# Altium footprint library FQFP (0.3mm Pitch, Square) - Corner Index.PcbLib: 26 footprints (part 3 of 3)
Each footprint in its own frame and in the unit in brackets; x right, y up, seen from the top. Pads: shape width x height; smd on the part's side, far side on the other; paste and mask are expansions set on the pad; w line width, h text height; cw(c..) or ccw(c..) is an arc to the next point about the centre after c.
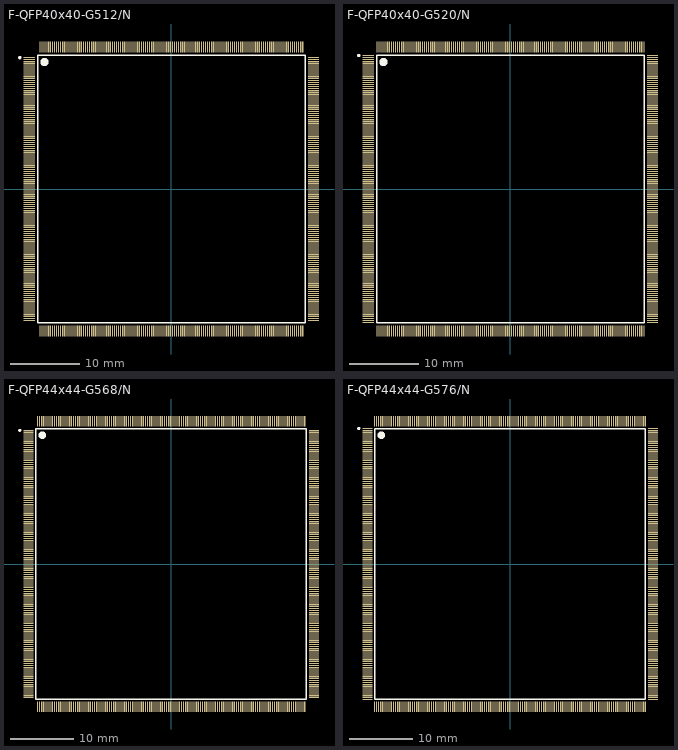
[diagram p2: the footprints below, top view; thin cyan lines are the x and y axes]

## F-QFP40x40-G512/N [mm] "QFP; 512 Leads; Body 40 x 40 mm; Pitch 0.3 mm"
height 4.2
pads (512):
  rect 1.6x0.17 smd: 1(-20.6,19.05) 2(-20.6,18.75) 3(-20.6,18.45) 4(-20.6,18.15) 5(-20.6,17.85) 6(-20.6,17.55) 7(-20.6,17.25) 8(-20.6,16.95) 9(-20.6,16.65) 10(-20.6,16.35) 11(-20.6,16.05) 12(-20.6,15.75) 13(-20.6,15.45) 14(-20.6,15.15) 15(-20.6,14.85) 16(-20.6,14.55) 17(-20.6,14.25) 18(-20.6,13.95) 19(-20.6,13.65) 20(-20.6,13.35) 21(-20.6,13.05) 22(-20.6,12.75) 23(-20.6,12.45) 24(-20.6,12.15) 25(-20.6,11.85) 26(-20.6,11.55) 27(-20.6,11.25) 28(-20.6,10.95) 29(-20.6,10.65) 30(-20.6,10.35) 31(-20.6,10.05) 32(-20.6,9.75) 33(-20.6,9.45) 34(-20.6,9.15) 35(-20.6,8.85) 36(-20.6,8.55) 37(-20.6,8.25) 38(-20.6,7.95) 39(-20.6,7.65) 40(-20.6,7.35) 41(-20.6,7.05) 42(-20.6,6.75) 43(-20.6,6.45) 44(-20.6,6.15) 45(-20.6,5.85) 46(-20.6,5.55) 47(-20.6,5.25) 48(-20.6,4.95) 49(-20.6,4.65) 50(-20.6,4.35) 51(-20.6,4.05) 52(-20.6,3.75) 53(-20.6,3.45) 54(-20.6,3.15) 55(-20.6,2.85) 56(-20.6,2.55) 57(-20.6,2.25) 58(-20.6,1.95) 59(-20.6,1.65) 60(-20.6,1.35) 61(-20.6,1.05) 62(-20.6,0.75) 63(-20.6,0.45) 64(-20.6,0.15) 65(-20.6,-0.15) 66(-20.6,-0.45) 67(-20.6,-0.75) 68(-20.6,-1.05) 69(-20.6,-1.35) 70(-20.6,-1.65) 71(-20.6,-1.95) 72(-20.6,-2.25) 73(-20.6,-2.55) 74(-20.6,-2.85) 75(-20.6,-3.15) 76(-20.6,-3.45) 77(-20.6,-3.75) 78(-20.6,-4.05) 79(-20.6,-4.35) 80(-20.6,-4.65) 81(-20.6,-4.95) 82(-20.6,-5.25) 83(-20.6,-5.55) 84(-20.6,-5.85) 85(-20.6,-6.15) 86(-20.6,-6.45) 87(-20.6,-6.75) 88(-20.6,-7.05) 89(-20.6,-7.35) 90(-20.6,-7.65) 91(-20.6,-7.95) 92(-20.6,-8.25) 93(-20.6,-8.55) 94(-20.6,-8.85) 95(-20.6,-9.15) 96(-20.6,-9.45) 97(-20.6,-9.75) 98(-20.6,-10.05) 99(-20.6,-10.35) 100(-20.6,-10.65) 101(-20.6,-10.95) 102(-20.6,-11.25) 103(-20.6,-11.55) 104(-20.6,-11.85) 105(-20.6,-12.15) 106(-20.6,-12.45) 107(-20.6,-12.75) 108(-20.6,-13.05) 109(-20.6,-13.35) 110(-20.6,-13.65) 111(-20.6,-13.95) 112(-20.6,-14.25) 113(-20.6,-14.55) 114(-20.6,-14.85) 115(-20.6,-15.15) 116(-20.6,-15.45) 117(-20.6,-15.75) 118(-20.6,-16.05) 119(-20.6,-16.35) 120(-20.6,-16.65) 121(-20.6,-16.95) 122(-20.6,-17.25) 123(-20.6,-17.55) 124(-20.6,-17.85) 125(-20.6,-18.15) 126(-20.6,-18.45) 127(-20.6,-18.75) 128(-20.6,-19.05) 257(20.6,-19.05) 258(20.6,-18.75) 259(20.6,-18.45) 260(20.6,-18.15) 261(20.6,-17.85) 262(20.6,-17.55) 263(20.6,-17.25) 264(20.6,-16.95) 265(20.6,-16.65) 266(20.6,-16.35) 267(20.6,-16.05) 268(20.6,-15.75) 269(20.6,-15.45) 270(20.6,-15.15) 271(20.6,-14.85) 272(20.6,-14.55) 273(20.6,-14.25) 274(20.6,-13.95) 275(20.6,-13.65) 276(20.6,-13.35) 277(20.6,-13.05) 278(20.6,-12.75) 279(20.6,-12.45) 280(20.6,-12.15) 281(20.6,-11.85) 282(20.6,-11.55) 283(20.6,-11.25) 284(20.6,-10.95) 285(20.6,-10.65) 286(20.6,-10.35) 287(20.6,-10.05) 288(20.6,-9.75) 289(20.6,-9.45) 290(20.6,-9.15) 291(20.6,-8.85) 292(20.6,-8.55) 293(20.6,-8.25) 294(20.6,-7.95) 295(20.6,-7.65) 296(20.6,-7.35) 297(20.6,-7.05) 298(20.6,-6.75) 299(20.6,-6.45) 300(20.6,-6.15) 301(20.6,-5.85) 302(20.6,-5.55) 303(20.6,-5.25) 304(20.6,-4.95) 305(20.6,-4.65) 306(20.6,-4.35) 307(20.6,-4.05) 308(20.6,-3.75) 309(20.6,-3.45) 310(20.6,-3.15) 311(20.6,-2.85) 312(20.6,-2.55) 313(20.6,-2.25) 314(20.6,-1.95) 315(20.6,-1.65) 316(20.6,-1.35) 317(20.6,-1.05) 318(20.6,-0.75) 319(20.6,-0.45) 320(20.6,-0.15) 321(20.6,0.15) 322(20.6,0.45) 323(20.6,0.75) 324(20.6,1.05) 325(20.6,1.35) 326(20.6,1.65) 327(20.6,1.95) 328(20.6,2.25) 329(20.6,2.55) 330(20.6,2.85) 331(20.6,3.15) 332(20.6,3.45) 333(20.6,3.75) 334(20.6,4.05) 335(20.6,4.35) 336(20.6,4.65) 337(20.6,4.95) 338(20.6,5.25) 339(20.6,5.55) 340(20.6,5.85) 341(20.6,6.15) 342(20.6,6.45) 343(20.6,6.75) 344(20.6,7.05) 345(20.6,7.35) 346(20.6,7.65) 347(20.6,7.95) 348(20.6,8.25) 349(20.6,8.55) 350(20.6,8.85) 351(20.6,9.15) 352(20.6,9.45) 353(20.6,9.75) 354(20.6,10.05) 355(20.6,10.35) 356(20.6,10.65) 357(20.6,10.95) 358(20.6,11.25) 359(20.6,11.55) 360(20.6,11.85) 361(20.6,12.15) 362(20.6,12.45) 363(20.6,12.75) 364(20.6,13.05) 365(20.6,13.35) 366(20.6,13.65) 367(20.6,13.95) 368(20.6,14.25) 369(20.6,14.55) 370(20.6,14.85) 371(20.6,15.15) 372(20.6,15.45) 373(20.6,15.75) 374(20.6,16.05) 375(20.6,16.35) 376(20.6,16.65) 377(20.6,16.95) 378(20.6,17.25) 379(20.6,17.55) 380(20.6,17.85) 381(20.6,18.15) 382(20.6,18.45) 383(20.6,18.75) 384(20.6,19.05)
  rect 0.17x1.6 smd: 129(-19.05,-20.6) 130(-18.75,-20.6) 131(-18.45,-20.6) 132(-18.15,-20.6) 133(-17.85,-20.6) 134(-17.55,-20.6) 135(-17.25,-20.6) 136(-16.95,-20.6) 137(-16.65,-20.6) 138(-16.35,-20.6) 139(-16.05,-20.6) 140(-15.75,-20.6) 141(-15.45,-20.6) 142(-15.15,-20.6) 143(-14.85,-20.6) 144(-14.55,-20.6) 145(-14.25,-20.6) 146(-13.95,-20.6) 147(-13.65,-20.6) 148(-13.35,-20.6) 149(-13.05,-20.6) 150(-12.75,-20.6) 151(-12.45,-20.6) 152(-12.15,-20.6) 153(-11.85,-20.6) 154(-11.55,-20.6) 155(-11.25,-20.6) 156(-10.95,-20.6) 157(-10.65,-20.6) 158(-10.35,-20.6) 159(-10.05,-20.6) 160(-9.75,-20.6) 161(-9.45,-20.6) 162(-9.15,-20.6) 163(-8.85,-20.6) 164(-8.55,-20.6) 165(-8.25,-20.6) 166(-7.95,-20.6) 167(-7.65,-20.6) 168(-7.35,-20.6) 169(-7.05,-20.6) 170(-6.75,-20.6) 171(-6.45,-20.6) 172(-6.15,-20.6) 173(-5.85,-20.6) 174(-5.55,-20.6) 175(-5.25,-20.6) 176(-4.95,-20.6) 177(-4.65,-20.6) 178(-4.35,-20.6) 179(-4.05,-20.6) 180(-3.75,-20.6) 181(-3.45,-20.6) 182(-3.15,-20.6) 183(-2.85,-20.6) 184(-2.55,-20.6) 185(-2.25,-20.6) 186(-1.95,-20.6) 187(-1.65,-20.6) 188(-1.35,-20.6) 189(-1.05,-20.6) 190(-0.75,-20.6) 191(-0.45,-20.6) 192(-0.15,-20.6) 193(0.15,-20.6) 194(0.45,-20.6) 195(0.75,-20.6) 196(1.05,-20.6) 197(1.35,-20.6) 198(1.65,-20.6) 199(1.95,-20.6) 200(2.25,-20.6) 201(2.55,-20.6) 202(2.85,-20.6) 203(3.15,-20.6) 204(3.45,-20.6) 205(3.75,-20.6) 206(4.05,-20.6) 207(4.35,-20.6) 208(4.65,-20.6) 209(4.95,-20.6) 210(5.25,-20.6) 211(5.55,-20.6) 212(5.85,-20.6) 213(6.15,-20.6) 214(6.45,-20.6) 215(6.75,-20.6) 216(7.05,-20.6) 217(7.35,-20.6) 218(7.65,-20.6) 219(7.95,-20.6) 220(8.25,-20.6) 221(8.55,-20.6) 222(8.85,-20.6) 223(9.15,-20.6) 224(9.45,-20.6) 225(9.75,-20.6) 226(10.05,-20.6) 227(10.35,-20.6) 228(10.65,-20.6) 229(10.95,-20.6) 230(11.25,-20.6) 231(11.55,-20.6) 232(11.85,-20.6) 233(12.15,-20.6) 234(12.45,-20.6) 235(12.75,-20.6) 236(13.05,-20.6) 237(13.35,-20.6) 238(13.65,-20.6) 239(13.95,-20.6) 240(14.25,-20.6) 241(14.55,-20.6) 242(14.85,-20.6) 243(15.15,-20.6) 244(15.45,-20.6) 245(15.75,-20.6) 246(16.05,-20.6) 247(16.35,-20.6) 248(16.65,-20.6) 249(16.95,-20.6) 250(17.25,-20.6) 251(17.55,-20.6) 252(17.85,-20.6) 253(18.15,-20.6) 254(18.45,-20.6) 255(18.75,-20.6) 256(19.05,-20.6) 385(19.05,20.6) 386(18.75,20.6) 387(18.45,20.6) 388(18.15,20.6) 389(17.85,20.6) 390(17.55,20.6) 391(17.25,20.6) 392(16.95,20.6) 393(16.65,20.6) 394(16.35,20.6) 395(16.05,20.6) 396(15.75,20.6) 397(15.45,20.6) 398(15.15,20.6) 399(14.85,20.6) 400(14.55,20.6) 401(14.25,20.6) 402(13.95,20.6) 403(13.65,20.6) 404(13.35,20.6) 405(13.05,20.6) 406(12.75,20.6) 407(12.45,20.6) 408(12.15,20.6) 409(11.85,20.6) 410(11.55,20.6) 411(11.25,20.6) 412(10.95,20.6) 413(10.65,20.6) 414(10.35,20.6) 415(10.05,20.6) 416(9.75,20.6) 417(9.45,20.6) 418(9.15,20.6) 419(8.85,20.6) 420(8.55,20.6) 421(8.25,20.6) 422(7.95,20.6) 423(7.65,20.6) 424(7.35,20.6) 425(7.05,20.6) 426(6.75,20.6) 427(6.45,20.6) 428(6.15,20.6) 429(5.85,20.6) 430(5.55,20.6) 431(5.25,20.6) 432(4.95,20.6) 433(4.65,20.6) 434(4.35,20.6) 435(4.05,20.6) 436(3.75,20.6) 437(3.45,20.6) 438(3.15,20.6) 439(2.85,20.6) 440(2.55,20.6) 441(2.25,20.6) 442(1.95,20.6) 443(1.65,20.6) 444(1.35,20.6) 445(1.05,20.6) 446(0.75,20.6) 447(0.45,20.6) 448(0.15,20.6) 449(-0.15,20.6) 450(-0.45,20.6) 451(-0.75,20.6) 452(-1.05,20.6) 453(-1.35,20.6) 454(-1.65,20.6) 455(-1.95,20.6) 456(-2.25,20.6) 457(-2.55,20.6) 458(-2.85,20.6) 459(-3.15,20.6) 460(-3.45,20.6) 461(-3.75,20.6) 462(-4.05,20.6) 463(-4.35,20.6) 464(-4.65,20.6) 465(-4.95,20.6) 466(-5.25,20.6) 467(-5.55,20.6) 468(-5.85,20.6) 469(-6.15,20.6) 470(-6.45,20.6) 471(-6.75,20.6) 472(-7.05,20.6) 473(-7.35,20.6) 474(-7.65,20.6) 475(-7.95,20.6) 476(-8.25,20.6) 477(-8.55,20.6) 478(-8.85,20.6) 479(-9.15,20.6) 480(-9.45,20.6) 481(-9.75,20.6) 482(-10.05,20.6) 483(-10.35,20.6) 484(-10.65,20.6) 485(-10.95,20.6) 486(-11.25,20.6) 487(-11.55,20.6) 488(-11.85,20.6) 489(-12.15,20.6) 490(-12.45,20.6) 491(-12.75,20.6) 492(-13.05,20.6) 493(-13.35,20.6) 494(-13.65,20.6) 495(-13.95,20.6) 496(-14.25,20.6) 497(-14.55,20.6) 498(-14.85,20.6) 499(-15.15,20.6) 500(-15.45,20.6) 501(-15.75,20.6) 502(-16.05,20.6) 503(-16.35,20.6) 504(-16.65,20.6) 505(-16.95,20.6) 506(-17.25,20.6) 507(-17.55,20.6) 508(-17.85,20.6) 509(-18.15,20.6) 510(-18.45,20.6) 511(-18.75,20.6) 512(-19.05,20.6)
Top Overlay:
  circle w0.25: c-21.96,19.05 r0.125
  circle w0.6: c-18.4,18.4 r0.3
  lines w0.2: -19.4,-19.4 19.4,-19.4 19.4,19.4 -19.4,19.4 -19.4,-19.4

## F-QFP40x40-G520/N [mm] "QFP; 520 Leads; Body 40 x 40 mm; Pitch 0.3 mm"
height 4.2
pads (520):
  rect 1.6x0.17 smd: 1(-20.6,19.35) 2(-20.6,19.05) 3(-20.6,18.75) 4(-20.6,18.45) 5(-20.6,18.15) 6(-20.6,17.85) 7(-20.6,17.55) 8(-20.6,17.25) 9(-20.6,16.95) 10(-20.6,16.65) 11(-20.6,16.35) 12(-20.6,16.05) 13(-20.6,15.75) 14(-20.6,15.45) 15(-20.6,15.15) 16(-20.6,14.85) 17(-20.6,14.55) 18(-20.6,14.25) 19(-20.6,13.95) 20(-20.6,13.65) 21(-20.6,13.35) 22(-20.6,13.05) 23(-20.6,12.75) 24(-20.6,12.45) 25(-20.6,12.15) 26(-20.6,11.85) 27(-20.6,11.55) 28(-20.6,11.25) 29(-20.6,10.95) 30(-20.6,10.65) 31(-20.6,10.35) 32(-20.6,10.05) 33(-20.6,9.75) 34(-20.6,9.45) 35(-20.6,9.15) 36(-20.6,8.85) 37(-20.6,8.55) 38(-20.6,8.25) 39(-20.6,7.95) 40(-20.6,7.65) 41(-20.6,7.35) 42(-20.6,7.05) 43(-20.6,6.75) 44(-20.6,6.45) 45(-20.6,6.15) 46(-20.6,5.85) 47(-20.6,5.55) 48(-20.6,5.25) 49(-20.6,4.95) 50(-20.6,4.65) 51(-20.6,4.35) 52(-20.6,4.05) 53(-20.6,3.75) 54(-20.6,3.45) 55(-20.6,3.15) 56(-20.6,2.85) 57(-20.6,2.55) 58(-20.6,2.25) 59(-20.6,1.95) 60(-20.6,1.65) 61(-20.6,1.35) 62(-20.6,1.05) 63(-20.6,0.75) 64(-20.6,0.45) 65(-20.6,0.15) 66(-20.6,-0.15) 67(-20.6,-0.45) 68(-20.6,-0.75) 69(-20.6,-1.05) 70(-20.6,-1.35) 71(-20.6,-1.65) 72(-20.6,-1.95) 73(-20.6,-2.25) 74(-20.6,-2.55) 75(-20.6,-2.85) 76(-20.6,-3.15) 77(-20.6,-3.45) 78(-20.6,-3.75) 79(-20.6,-4.05) 80(-20.6,-4.35) 81(-20.6,-4.65) 82(-20.6,-4.95) 83(-20.6,-5.25) 84(-20.6,-5.55) 85(-20.6,-5.85) 86(-20.6,-6.15) 87(-20.6,-6.45) 88(-20.6,-6.75) 89(-20.6,-7.05) 90(-20.6,-7.35) 91(-20.6,-7.65) 92(-20.6,-7.95) 93(-20.6,-8.25) 94(-20.6,-8.55) 95(-20.6,-8.85) 96(-20.6,-9.15) 97(-20.6,-9.45) 98(-20.6,-9.75) 99(-20.6,-10.05) 100(-20.6,-10.35) 101(-20.6,-10.65) 102(-20.6,-10.95) 103(-20.6,-11.25) 104(-20.6,-11.55) 105(-20.6,-11.85) 106(-20.6,-12.15) 107(-20.6,-12.45) 108(-20.6,-12.75) 109(-20.6,-13.05) 110(-20.6,-13.35) 111(-20.6,-13.65) 112(-20.6,-13.95) 113(-20.6,-14.25) 114(-20.6,-14.55) 115(-20.6,-14.85) 116(-20.6,-15.15) 117(-20.6,-15.45) 118(-20.6,-15.75) 119(-20.6,-16.05) 120(-20.6,-16.35) 121(-20.6,-16.65) 122(-20.6,-16.95) 123(-20.6,-17.25) 124(-20.6,-17.55) 125(-20.6,-17.85) 126(-20.6,-18.15) 127(-20.6,-18.45) 128(-20.6,-18.75) 129(-20.6,-19.05) 130(-20.6,-19.35) 261(20.6,-19.35) 262(20.6,-19.05) 263(20.6,-18.75) 264(20.6,-18.45) 265(20.6,-18.15) 266(20.6,-17.85) 267(20.6,-17.55) 268(20.6,-17.25) 269(20.6,-16.95) 270(20.6,-16.65) 271(20.6,-16.35) 272(20.6,-16.05) 273(20.6,-15.75) 274(20.6,-15.45) 275(20.6,-15.15) 276(20.6,-14.85) 277(20.6,-14.55) 278(20.6,-14.25) 279(20.6,-13.95) 280(20.6,-13.65) 281(20.6,-13.35) 282(20.6,-13.05) 283(20.6,-12.75) 284(20.6,-12.45) 285(20.6,-12.15) 286(20.6,-11.85) 287(20.6,-11.55) 288(20.6,-11.25) 289(20.6,-10.95) 290(20.6,-10.65) 291(20.6,-10.35) 292(20.6,-10.05) 293(20.6,-9.75) 294(20.6,-9.45) 295(20.6,-9.15) 296(20.6,-8.85) 297(20.6,-8.55) 298(20.6,-8.25) 299(20.6,-7.95) 300(20.6,-7.65) 301(20.6,-7.35) 302(20.6,-7.05) 303(20.6,-6.75) 304(20.6,-6.45) 305(20.6,-6.15) 306(20.6,-5.85) 307(20.6,-5.55) 308(20.6,-5.25) 309(20.6,-4.95) 310(20.6,-4.65) 311(20.6,-4.35) 312(20.6,-4.05) 313(20.6,-3.75) 314(20.6,-3.45) 315(20.6,-3.15) 316(20.6,-2.85) 317(20.6,-2.55) 318(20.6,-2.25) 319(20.6,-1.95) 320(20.6,-1.65) 321(20.6,-1.35) 322(20.6,-1.05) 323(20.6,-0.75) 324(20.6,-0.45) 325(20.6,-0.15) 326(20.6,0.15) 327(20.6,0.45) 328(20.6,0.75) 329(20.6,1.05) 330(20.6,1.35) 331(20.6,1.65) 332(20.6,1.95) 333(20.6,2.25) 334(20.6,2.55) 335(20.6,2.85) 336(20.6,3.15) 337(20.6,3.45) 338(20.6,3.75) 339(20.6,4.05) 340(20.6,4.35) 341(20.6,4.65) 342(20.6,4.95) 343(20.6,5.25) 344(20.6,5.55) 345(20.6,5.85) 346(20.6,6.15) 347(20.6,6.45) 348(20.6,6.75) 349(20.6,7.05) 350(20.6,7.35) 351(20.6,7.65) 352(20.6,7.95) 353(20.6,8.25) 354(20.6,8.55) 355(20.6,8.85) 356(20.6,9.15) 357(20.6,9.45) 358(20.6,9.75) 359(20.6,10.05) 360(20.6,10.35) 361(20.6,10.65) 362(20.6,10.95) 363(20.6,11.25) 364(20.6,11.55) 365(20.6,11.85) 366(20.6,12.15) 367(20.6,12.45) 368(20.6,12.75) 369(20.6,13.05) 370(20.6,13.35) 371(20.6,13.65) 372(20.6,13.95) 373(20.6,14.25) 374(20.6,14.55) 375(20.6,14.85) 376(20.6,15.15) 377(20.6,15.45) 378(20.6,15.75) 379(20.6,16.05) 380(20.6,16.35) 381(20.6,16.65) 382(20.6,16.95) 383(20.6,17.25) 384(20.6,17.55) 385(20.6,17.85) 386(20.6,18.15) 387(20.6,18.45) 388(20.6,18.75) 389(20.6,19.05) 390(20.6,19.35)
  rect 0.17x1.6 smd: 131(-19.35,-20.6) 132(-19.05,-20.6) 133(-18.75,-20.6) 134(-18.45,-20.6) 135(-18.15,-20.6) 136(-17.85,-20.6) 137(-17.55,-20.6) 138(-17.25,-20.6) 139(-16.95,-20.6) 140(-16.65,-20.6) 141(-16.35,-20.6) 142(-16.05,-20.6) 143(-15.75,-20.6) 144(-15.45,-20.6) 145(-15.15,-20.6) 146(-14.85,-20.6) 147(-14.55,-20.6) 148(-14.25,-20.6) 149(-13.95,-20.6) 150(-13.65,-20.6) 151(-13.35,-20.6) 152(-13.05,-20.6) 153(-12.75,-20.6) 154(-12.45,-20.6) 155(-12.15,-20.6) 156(-11.85,-20.6) 157(-11.55,-20.6) 158(-11.25,-20.6) 159(-10.95,-20.6) 160(-10.65,-20.6) 161(-10.35,-20.6) 162(-10.05,-20.6) 163(-9.75,-20.6) 164(-9.45,-20.6) 165(-9.15,-20.6) 166(-8.85,-20.6) 167(-8.55,-20.6) 168(-8.25,-20.6) 169(-7.95,-20.6) 170(-7.65,-20.6) 171(-7.35,-20.6) 172(-7.05,-20.6) 173(-6.75,-20.6) 174(-6.45,-20.6) 175(-6.15,-20.6) 176(-5.85,-20.6) 177(-5.55,-20.6) 178(-5.25,-20.6) 179(-4.95,-20.6) 180(-4.65,-20.6) 181(-4.35,-20.6) 182(-4.05,-20.6) 183(-3.75,-20.6) 184(-3.45,-20.6) 185(-3.15,-20.6) 186(-2.85,-20.6) 187(-2.55,-20.6) 188(-2.25,-20.6) 189(-1.95,-20.6) 190(-1.65,-20.6) 191(-1.35,-20.6) 192(-1.05,-20.6) 193(-0.75,-20.6) 194(-0.45,-20.6) 195(-0.15,-20.6) 196(0.15,-20.6) 197(0.45,-20.6) 198(0.75,-20.6) 199(1.05,-20.6) 200(1.35,-20.6) 201(1.65,-20.6) 202(1.95,-20.6) 203(2.25,-20.6) 204(2.55,-20.6) 205(2.85,-20.6) 206(3.15,-20.6) 207(3.45,-20.6) 208(3.75,-20.6) 209(4.05,-20.6) 210(4.35,-20.6) 211(4.65,-20.6) 212(4.95,-20.6) 213(5.25,-20.6) 214(5.55,-20.6) 215(5.85,-20.6) 216(6.15,-20.6) 217(6.45,-20.6) 218(6.75,-20.6) 219(7.05,-20.6) 220(7.35,-20.6) 221(7.65,-20.6) 222(7.95,-20.6) 223(8.25,-20.6) 224(8.55,-20.6) 225(8.85,-20.6) 226(9.15,-20.6) 227(9.45,-20.6) 228(9.75,-20.6) 229(10.05,-20.6) 230(10.35,-20.6) 231(10.65,-20.6) 232(10.95,-20.6) 233(11.25,-20.6) 234(11.55,-20.6) 235(11.85,-20.6) 236(12.15,-20.6) 237(12.45,-20.6) 238(12.75,-20.6) 239(13.05,-20.6) 240(13.35,-20.6) 241(13.65,-20.6) 242(13.95,-20.6) 243(14.25,-20.6) 244(14.55,-20.6) 245(14.85,-20.6) 246(15.15,-20.6) 247(15.45,-20.6) 248(15.75,-20.6) 249(16.05,-20.6) 250(16.35,-20.6) 251(16.65,-20.6) 252(16.95,-20.6) 253(17.25,-20.6) 254(17.55,-20.6) 255(17.85,-20.6) 256(18.15,-20.6) 257(18.45,-20.6) 258(18.75,-20.6) 259(19.05,-20.6) 260(19.35,-20.6) 391(19.35,20.6) 392(19.05,20.6) 393(18.75,20.6) 394(18.45,20.6) 395(18.15,20.6) 396(17.85,20.6) 397(17.55,20.6) 398(17.25,20.6) 399(16.95,20.6) 400(16.65,20.6) 401(16.35,20.6) 402(16.05,20.6) 403(15.75,20.6) 404(15.45,20.6) 405(15.15,20.6) 406(14.85,20.6) 407(14.55,20.6) 408(14.25,20.6) 409(13.95,20.6) 410(13.65,20.6) 411(13.35,20.6) 412(13.05,20.6) 413(12.75,20.6) 414(12.45,20.6) 415(12.15,20.6) 416(11.85,20.6) 417(11.55,20.6) 418(11.25,20.6) 419(10.95,20.6) 420(10.65,20.6) 421(10.35,20.6) 422(10.05,20.6) 423(9.75,20.6) 424(9.45,20.6) 425(9.15,20.6) 426(8.85,20.6) 427(8.55,20.6) 428(8.25,20.6) 429(7.95,20.6) 430(7.65,20.6) 431(7.35,20.6) 432(7.05,20.6) 433(6.75,20.6) 434(6.45,20.6) 435(6.15,20.6) 436(5.85,20.6) 437(5.55,20.6) 438(5.25,20.6) 439(4.95,20.6) 440(4.65,20.6) 441(4.35,20.6) 442(4.05,20.6) 443(3.75,20.6) 444(3.45,20.6) 445(3.15,20.6) 446(2.85,20.6) 447(2.55,20.6) 448(2.25,20.6) 449(1.95,20.6) 450(1.65,20.6) 451(1.35,20.6) 452(1.05,20.6) 453(0.75,20.6) 454(0.45,20.6) 455(0.15,20.6) 456(-0.15,20.6) 457(-0.45,20.6) 458(-0.75,20.6) 459(-1.05,20.6) 460(-1.35,20.6) 461(-1.65,20.6) 462(-1.95,20.6) 463(-2.25,20.6) 464(-2.55,20.6) 465(-2.85,20.6) 466(-3.15,20.6) 467(-3.45,20.6) 468(-3.75,20.6) 469(-4.05,20.6) 470(-4.35,20.6) 471(-4.65,20.6) 472(-4.95,20.6) 473(-5.25,20.6) 474(-5.55,20.6) 475(-5.85,20.6) 476(-6.15,20.6) 477(-6.45,20.6) 478(-6.75,20.6) 479(-7.05,20.6) 480(-7.35,20.6) 481(-7.65,20.6) 482(-7.95,20.6) 483(-8.25,20.6) 484(-8.55,20.6) 485(-8.85,20.6) 486(-9.15,20.6) 487(-9.45,20.6) 488(-9.75,20.6) 489(-10.05,20.6) 490(-10.35,20.6) 491(-10.65,20.6) 492(-10.95,20.6) 493(-11.25,20.6) 494(-11.55,20.6) 495(-11.85,20.6) 496(-12.15,20.6) 497(-12.45,20.6) 498(-12.75,20.6) 499(-13.05,20.6) 500(-13.35,20.6) 501(-13.65,20.6) 502(-13.95,20.6) 503(-14.25,20.6) 504(-14.55,20.6) 505(-14.85,20.6) 506(-15.15,20.6) 507(-15.45,20.6) 508(-15.75,20.6) 509(-16.05,20.6) 510(-16.35,20.6) 511(-16.65,20.6) 512(-16.95,20.6) 513(-17.25,20.6) 514(-17.55,20.6) 515(-17.85,20.6) 516(-18.15,20.6) 517(-18.45,20.6) 518(-18.75,20.6) 519(-19.05,20.6) 520(-19.35,20.6)
Top Overlay:
  circle w0.25: c-21.96,19.35 r0.125
  circle w0.6: c-18.4,18.4 r0.3
  lines w0.2: -19.4,-19.4 19.4,-19.4 19.4,19.4 -19.4,19.4 -19.4,-19.4

## F-QFP44x44-G568/N [mm] "QFP; 568 Leads; Body 44 x 44 mm; Pitch 0.3 mm"
height 4.2
pads (568):
  rect 1.6x0.17 smd: 1(-22.6,21.15) 2(-22.6,20.85) 3(-22.6,20.55) 4(-22.6,20.25) 5(-22.6,19.95) 6(-22.6,19.65) 7(-22.6,19.35) 8(-22.6,19.05) 9(-22.6,18.75) 10(-22.6,18.45) 11(-22.6,18.15) 12(-22.6,17.85) 13(-22.6,17.55) 14(-22.6,17.25) 15(-22.6,16.95) 16(-22.6,16.65) 17(-22.6,16.35) 18(-22.6,16.05) 19(-22.6,15.75) 20(-22.6,15.45) 21(-22.6,15.15) 22(-22.6,14.85) 23(-22.6,14.55) 24(-22.6,14.25) 25(-22.6,13.95) 26(-22.6,13.65) 27(-22.6,13.35) 28(-22.6,13.05) 29(-22.6,12.75) 30(-22.6,12.45) 31(-22.6,12.15) 32(-22.6,11.85) 33(-22.6,11.55) 34(-22.6,11.25) 35(-22.6,10.95) 36(-22.6,10.65) 37(-22.6,10.35) 38(-22.6,10.05) 39(-22.6,9.75) 40(-22.6,9.45) 41(-22.6,9.15) 42(-22.6,8.85) 43(-22.6,8.55) 44(-22.6,8.25) 45(-22.6,7.95) 46(-22.6,7.65) 47(-22.6,7.35) 48(-22.6,7.05) 49(-22.6,6.75) 50(-22.6,6.45) 51(-22.6,6.15) 52(-22.6,5.85) 53(-22.6,5.55) 54(-22.6,5.25) 55(-22.6,4.95) 56(-22.6,4.65) 57(-22.6,4.35) 58(-22.6,4.05) 59(-22.6,3.75) 60(-22.6,3.45) 61(-22.6,3.15) 62(-22.6,2.85) 63(-22.6,2.55) 64(-22.6,2.25) 65(-22.6,1.95) 66(-22.6,1.65) 67(-22.6,1.35) 68(-22.6,1.05) 69(-22.6,0.75) 70(-22.6,0.45) 71(-22.6,0.15) 72(-22.6,-0.15) 73(-22.6,-0.45) 74(-22.6,-0.75) 75(-22.6,-1.05) 76(-22.6,-1.35) 77(-22.6,-1.65) 78(-22.6,-1.95) 79(-22.6,-2.25) 80(-22.6,-2.55) 81(-22.6,-2.85) 82(-22.6,-3.15) 83(-22.6,-3.45) 84(-22.6,-3.75) 85(-22.6,-4.05) 86(-22.6,-4.35) 87(-22.6,-4.65) 88(-22.6,-4.95) 89(-22.6,-5.25) 90(-22.6,-5.55) 91(-22.6,-5.85) 92(-22.6,-6.15) 93(-22.6,-6.45) 94(-22.6,-6.75) 95(-22.6,-7.05) 96(-22.6,-7.35) 97(-22.6,-7.65) 98(-22.6,-7.95) 99(-22.6,-8.25) 100(-22.6,-8.55) 101(-22.6,-8.85) 102(-22.6,-9.15) 103(-22.6,-9.45) 104(-22.6,-9.75) 105(-22.6,-10.05) 106(-22.6,-10.35) 107(-22.6,-10.65) 108(-22.6,-10.95) 109(-22.6,-11.25) 110(-22.6,-11.55) 111(-22.6,-11.85) 112(-22.6,-12.15) 113(-22.6,-12.45) 114(-22.6,-12.75) 115(-22.6,-13.05) 116(-22.6,-13.35) 117(-22.6,-13.65) 118(-22.6,-13.95) 119(-22.6,-14.25) 120(-22.6,-14.55) 121(-22.6,-14.85) 122(-22.6,-15.15) 123(-22.6,-15.45) 124(-22.6,-15.75) 125(-22.6,-16.05) 126(-22.6,-16.35) 127(-22.6,-16.65) 128(-22.6,-16.95) 129(-22.6,-17.25) 130(-22.6,-17.55) 131(-22.6,-17.85) 132(-22.6,-18.15) 133(-22.6,-18.45) 134(-22.6,-18.75) 135(-22.6,-19.05) 136(-22.6,-19.35) 137(-22.6,-19.65) 138(-22.6,-19.95) 139(-22.6,-20.25) 140(-22.6,-20.55) 141(-22.6,-20.85) 142(-22.6,-21.15) 285(22.6,-21.15) 286(22.6,-20.85) 287(22.6,-20.55) 288(22.6,-20.25) 289(22.6,-19.95) 290(22.6,-19.65) 291(22.6,-19.35) 292(22.6,-19.05) 293(22.6,-18.75) 294(22.6,-18.45) 295(22.6,-18.15) 296(22.6,-17.85) 297(22.6,-17.55) 298(22.6,-17.25) 299(22.6,-16.95) 300(22.6,-16.65) 301(22.6,-16.35) 302(22.6,-16.05) 303(22.6,-15.75) 304(22.6,-15.45) 305(22.6,-15.15) 306(22.6,-14.85) 307(22.6,-14.55) 308(22.6,-14.25) 309(22.6,-13.95) 310(22.6,-13.65) 311(22.6,-13.35) 312(22.6,-13.05) 313(22.6,-12.75) 314(22.6,-12.45) 315(22.6,-12.15) 316(22.6,-11.85) 317(22.6,-11.55) 318(22.6,-11.25) 319(22.6,-10.95) 320(22.6,-10.65) 321(22.6,-10.35) 322(22.6,-10.05) 323(22.6,-9.75) 324(22.6,-9.45) 325(22.6,-9.15) 326(22.6,-8.85) 327(22.6,-8.55) 328(22.6,-8.25) 329(22.6,-7.95) 330(22.6,-7.65) 331(22.6,-7.35) 332(22.6,-7.05) 333(22.6,-6.75) 334(22.6,-6.45) 335(22.6,-6.15) 336(22.6,-5.85) 337(22.6,-5.55) 338(22.6,-5.25) 339(22.6,-4.95) 340(22.6,-4.65) 341(22.6,-4.35) 342(22.6,-4.05) 343(22.6,-3.75) 344(22.6,-3.45) 345(22.6,-3.15) 346(22.6,-2.85) 347(22.6,-2.55) 348(22.6,-2.25) 349(22.6,-1.95) 350(22.6,-1.65) 351(22.6,-1.35) 352(22.6,-1.05) 353(22.6,-0.75) 354(22.6,-0.45) 355(22.6,-0.15) 356(22.6,0.15) 357(22.6,0.45) 358(22.6,0.75) 359(22.6,1.05) 360(22.6,1.35) 361(22.6,1.65) 362(22.6,1.95) 363(22.6,2.25) 364(22.6,2.55) 365(22.6,2.85) 366(22.6,3.15) 367(22.6,3.45) 368(22.6,3.75) 369(22.6,4.05) 370(22.6,4.35) 371(22.6,4.65) 372(22.6,4.95) 373(22.6,5.25) 374(22.6,5.55) 375(22.6,5.85) 376(22.6,6.15) 377(22.6,6.45) 378(22.6,6.75) 379(22.6,7.05) 380(22.6,7.35) 381(22.6,7.65) 382(22.6,7.95) 383(22.6,8.25) 384(22.6,8.55) 385(22.6,8.85) 386(22.6,9.15) 387(22.6,9.45) 388(22.6,9.75) 389(22.6,10.05) 390(22.6,10.35) 391(22.6,10.65) 392(22.6,10.95) 393(22.6,11.25) 394(22.6,11.55) 395(22.6,11.85) 396(22.6,12.15) 397(22.6,12.45) 398(22.6,12.75) 399(22.6,13.05) 400(22.6,13.35) 401(22.6,13.65) 402(22.6,13.95) 403(22.6,14.25) 404(22.6,14.55) 405(22.6,14.85) 406(22.6,15.15) 407(22.6,15.45) 408(22.6,15.75) 409(22.6,16.05) 410(22.6,16.35) 411(22.6,16.65) 412(22.6,16.95) 413(22.6,17.25) 414(22.6,17.55) 415(22.6,17.85) 416(22.6,18.15) 417(22.6,18.45) 418(22.6,18.75) 419(22.6,19.05) 420(22.6,19.35) 421(22.6,19.65) 422(22.6,19.95) 423(22.6,20.25) 424(22.6,20.55) 425(22.6,20.85) 426(22.6,21.15)
  rect 0.17x1.6 smd: 143(-21.15,-22.6) 144(-20.85,-22.6) 145(-20.55,-22.6) 146(-20.25,-22.6) 147(-19.95,-22.6) 148(-19.65,-22.6) 149(-19.35,-22.6) 150(-19.05,-22.6) 151(-18.75,-22.6) 152(-18.45,-22.6) 153(-18.15,-22.6) 154(-17.85,-22.6) 155(-17.55,-22.6) 156(-17.25,-22.6) 157(-16.95,-22.6) 158(-16.65,-22.6) 159(-16.35,-22.6) 160(-16.05,-22.6) 161(-15.75,-22.6) 162(-15.45,-22.6) 163(-15.15,-22.6) 164(-14.85,-22.6) 165(-14.55,-22.6) 166(-14.25,-22.6) 167(-13.95,-22.6) 168(-13.65,-22.6) 169(-13.35,-22.6) 170(-13.05,-22.6) 171(-12.75,-22.6) 172(-12.45,-22.6) 173(-12.15,-22.6) 174(-11.85,-22.6) 175(-11.55,-22.6) 176(-11.25,-22.6) 177(-10.95,-22.6) 178(-10.65,-22.6) 179(-10.35,-22.6) 180(-10.05,-22.6) 181(-9.75,-22.6) 182(-9.45,-22.6) 183(-9.15,-22.6) 184(-8.85,-22.6) 185(-8.55,-22.6) 186(-8.25,-22.6) 187(-7.95,-22.6) 188(-7.65,-22.6) 189(-7.35,-22.6) 190(-7.05,-22.6) 191(-6.75,-22.6) 192(-6.45,-22.6) 193(-6.15,-22.6) 194(-5.85,-22.6) 195(-5.55,-22.6) 196(-5.25,-22.6) 197(-4.95,-22.6) 198(-4.65,-22.6) 199(-4.35,-22.6) 200(-4.05,-22.6) 201(-3.75,-22.6) 202(-3.45,-22.6) 203(-3.15,-22.6) 204(-2.85,-22.6) 205(-2.55,-22.6) 206(-2.25,-22.6) 207(-1.95,-22.6) 208(-1.65,-22.6) 209(-1.35,-22.6) 210(-1.05,-22.6) 211(-0.75,-22.6) 212(-0.45,-22.6) 213(-0.15,-22.6) 214(0.15,-22.6) 215(0.45,-22.6) 216(0.75,-22.6) 217(1.05,-22.6) 218(1.35,-22.6) 219(1.65,-22.6) 220(1.95,-22.6) 221(2.25,-22.6) 222(2.55,-22.6) 223(2.85,-22.6) 224(3.15,-22.6) 225(3.45,-22.6) 226(3.75,-22.6) 227(4.05,-22.6) 228(4.35,-22.6) 229(4.65,-22.6) 230(4.95,-22.6) 231(5.25,-22.6) 232(5.55,-22.6) 233(5.85,-22.6) 234(6.15,-22.6) 235(6.45,-22.6) 236(6.75,-22.6) 237(7.05,-22.6) 238(7.35,-22.6) 239(7.65,-22.6) 240(7.95,-22.6) 241(8.25,-22.6) 242(8.55,-22.6) 243(8.85,-22.6) 244(9.15,-22.6) 245(9.45,-22.6) 246(9.75,-22.6) 247(10.05,-22.6) 248(10.35,-22.6) 249(10.65,-22.6) 250(10.95,-22.6) 251(11.25,-22.6) 252(11.55,-22.6) 253(11.85,-22.6) 254(12.15,-22.6) 255(12.45,-22.6) 256(12.75,-22.6) 257(13.05,-22.6) 258(13.35,-22.6) 259(13.65,-22.6) 260(13.95,-22.6) 261(14.25,-22.6) 262(14.55,-22.6) 263(14.85,-22.6) 264(15.15,-22.6) 265(15.45,-22.6) 266(15.75,-22.6) 267(16.05,-22.6) 268(16.35,-22.6) 269(16.65,-22.6) 270(16.95,-22.6) 271(17.25,-22.6) 272(17.55,-22.6) 273(17.85,-22.6) 274(18.15,-22.6) 275(18.45,-22.6) 276(18.75,-22.6) 277(19.05,-22.6) 278(19.35,-22.6) 279(19.65,-22.6) 280(19.95,-22.6) 281(20.25,-22.6) 282(20.55,-22.6) 283(20.85,-22.6) 284(21.15,-22.6) 427(21.15,22.6) 428(20.85,22.6) 429(20.55,22.6) 430(20.25,22.6) 431(19.95,22.6) 432(19.65,22.6) 433(19.35,22.6) 434(19.05,22.6) 435(18.75,22.6) 436(18.45,22.6) 437(18.15,22.6) 438(17.85,22.6) 439(17.55,22.6) 440(17.25,22.6) 441(16.95,22.6) 442(16.65,22.6) 443(16.35,22.6) 444(16.05,22.6) 445(15.75,22.6) 446(15.45,22.6) 447(15.15,22.6) 448(14.85,22.6) 449(14.55,22.6) 450(14.25,22.6) 451(13.95,22.6) 452(13.65,22.6) 453(13.35,22.6) 454(13.05,22.6) 455(12.75,22.6) 456(12.45,22.6) 457(12.15,22.6) 458(11.85,22.6) 459(11.55,22.6) 460(11.25,22.6) 461(10.95,22.6) 462(10.65,22.6) 463(10.35,22.6) 464(10.05,22.6) 465(9.75,22.6) 466(9.45,22.6) 467(9.15,22.6) 468(8.85,22.6) 469(8.55,22.6) 470(8.25,22.6) 471(7.95,22.6) 472(7.65,22.6) 473(7.35,22.6) 474(7.05,22.6) 475(6.75,22.6) 476(6.45,22.6) 477(6.15,22.6) 478(5.85,22.6) 479(5.55,22.6) 480(5.25,22.6) 481(4.95,22.6) 482(4.65,22.6) 483(4.35,22.6) 484(4.05,22.6) 485(3.75,22.6) 486(3.45,22.6) 487(3.15,22.6) 488(2.85,22.6) 489(2.55,22.6) 490(2.25,22.6) 491(1.95,22.6) 492(1.65,22.6) 493(1.35,22.6) 494(1.05,22.6) 495(0.75,22.6) 496(0.45,22.6) 497(0.15,22.6) 498(-0.15,22.6) 499(-0.45,22.6) 500(-0.75,22.6) 501(-1.05,22.6) 502(-1.35,22.6) 503(-1.65,22.6) 504(-1.95,22.6) 505(-2.25,22.6) 506(-2.55,22.6) 507(-2.85,22.6) 508(-3.15,22.6) 509(-3.45,22.6) 510(-3.75,22.6) 511(-4.05,22.6) 512(-4.35,22.6) 513(-4.65,22.6) 514(-4.95,22.6) 515(-5.25,22.6) 516(-5.55,22.6) 517(-5.85,22.6) 518(-6.15,22.6) 519(-6.45,22.6) 520(-6.75,22.6) 521(-7.05,22.6) 522(-7.35,22.6) 523(-7.65,22.6) 524(-7.95,22.6) 525(-8.25,22.6) 526(-8.55,22.6) 527(-8.85,22.6) 528(-9.15,22.6) 529(-9.45,22.6) 530(-9.75,22.6) 531(-10.05,22.6) 532(-10.35,22.6) 533(-10.65,22.6) 534(-10.95,22.6) 535(-11.25,22.6) 536(-11.55,22.6) 537(-11.85,22.6) 538(-12.15,22.6) 539(-12.45,22.6) 540(-12.75,22.6) 541(-13.05,22.6) 542(-13.35,22.6) 543(-13.65,22.6) 544(-13.95,22.6) 545(-14.25,22.6) 546(-14.55,22.6) 547(-14.85,22.6) 548(-15.15,22.6) 549(-15.45,22.6) 550(-15.75,22.6) 551(-16.05,22.6) 552(-16.35,22.6) 553(-16.65,22.6) 554(-16.95,22.6) 555(-17.25,22.6) 556(-17.55,22.6) 557(-17.85,22.6) 558(-18.15,22.6) 559(-18.45,22.6) 560(-18.75,22.6) 561(-19.05,22.6) 562(-19.35,22.6) 563(-19.65,22.6) 564(-19.95,22.6) 565(-20.25,22.6) 566(-20.55,22.6) 567(-20.85,22.6) 568(-21.15,22.6)
Top Overlay:
  circle w0.25: c-23.96,21.15 r0.125
  circle w0.6: c-20.4,20.4 r0.3
  lines w0.2: -21.4,-21.4 21.4,-21.4 21.4,21.4 -21.4,21.4 -21.4,-21.4

## F-QFP44x44-G576/N [mm] "QFP; 576 Leads; Body 44 x 44 mm; Pitch 0.3 mm"
height 4.2
pads (576):
  rect 1.6x0.17 smd: 1(-22.6,21.45) 2(-22.6,21.15) 3(-22.6,20.85) 4(-22.6,20.55) 5(-22.6,20.25) 6(-22.6,19.95) 7(-22.6,19.65) 8(-22.6,19.35) 9(-22.6,19.05) 10(-22.6,18.75) 11(-22.6,18.45) 12(-22.6,18.15) 13(-22.6,17.85) 14(-22.6,17.55) 15(-22.6,17.25) 16(-22.6,16.95) 17(-22.6,16.65) 18(-22.6,16.35) 19(-22.6,16.05) 20(-22.6,15.75) 21(-22.6,15.45) 22(-22.6,15.15) 23(-22.6,14.85) 24(-22.6,14.55) 25(-22.6,14.25) 26(-22.6,13.95) 27(-22.6,13.65) 28(-22.6,13.35) 29(-22.6,13.05) 30(-22.6,12.75) 31(-22.6,12.45) 32(-22.6,12.15) 33(-22.6,11.85) 34(-22.6,11.55) 35(-22.6,11.25) 36(-22.6,10.95) 37(-22.6,10.65) 38(-22.6,10.35) 39(-22.6,10.05) 40(-22.6,9.75) 41(-22.6,9.45) 42(-22.6,9.15) 43(-22.6,8.85) 44(-22.6,8.55) 45(-22.6,8.25) 46(-22.6,7.95) 47(-22.6,7.65) 48(-22.6,7.35) 49(-22.6,7.05) 50(-22.6,6.75) 51(-22.6,6.45) 52(-22.6,6.15) 53(-22.6,5.85) 54(-22.6,5.55) 55(-22.6,5.25) 56(-22.6,4.95) 57(-22.6,4.65) 58(-22.6,4.35) 59(-22.6,4.05) 60(-22.6,3.75) 61(-22.6,3.45) 62(-22.6,3.15) 63(-22.6,2.85) 64(-22.6,2.55) 65(-22.6,2.25) 66(-22.6,1.95) 67(-22.6,1.65) 68(-22.6,1.35) 69(-22.6,1.05) 70(-22.6,0.75) 71(-22.6,0.45) 72(-22.6,0.15) 73(-22.6,-0.15) 74(-22.6,-0.45) 75(-22.6,-0.75) 76(-22.6,-1.05) 77(-22.6,-1.35) 78(-22.6,-1.65) 79(-22.6,-1.95) 80(-22.6,-2.25) 81(-22.6,-2.55) 82(-22.6,-2.85) 83(-22.6,-3.15) 84(-22.6,-3.45) 85(-22.6,-3.75) 86(-22.6,-4.05) 87(-22.6,-4.35) 88(-22.6,-4.65) 89(-22.6,-4.95) 90(-22.6,-5.25) 91(-22.6,-5.55) 92(-22.6,-5.85) 93(-22.6,-6.15) 94(-22.6,-6.45) 95(-22.6,-6.75) 96(-22.6,-7.05) 97(-22.6,-7.35) 98(-22.6,-7.65) 99(-22.6,-7.95) 100(-22.6,-8.25) 101(-22.6,-8.55) 102(-22.6,-8.85) 103(-22.6,-9.15) 104(-22.6,-9.45) 105(-22.6,-9.75) 106(-22.6,-10.05) 107(-22.6,-10.35) 108(-22.6,-10.65) 109(-22.6,-10.95) 110(-22.6,-11.25) 111(-22.6,-11.55) 112(-22.6,-11.85) 113(-22.6,-12.15) 114(-22.6,-12.45) 115(-22.6,-12.75) 116(-22.6,-13.05) 117(-22.6,-13.35) 118(-22.6,-13.65) 119(-22.6,-13.95) 120(-22.6,-14.25) 121(-22.6,-14.55) 122(-22.6,-14.85) 123(-22.6,-15.15) 124(-22.6,-15.45) 125(-22.6,-15.75) 126(-22.6,-16.05) 127(-22.6,-16.35) 128(-22.6,-16.65) 129(-22.6,-16.95) 130(-22.6,-17.25) 131(-22.6,-17.55) 132(-22.6,-17.85) 133(-22.6,-18.15) 134(-22.6,-18.45) 135(-22.6,-18.75) 136(-22.6,-19.05) 137(-22.6,-19.35) 138(-22.6,-19.65) 139(-22.6,-19.95) 140(-22.6,-20.25) 141(-22.6,-20.55) 142(-22.6,-20.85) 143(-22.6,-21.15) 144(-22.6,-21.45) 289(22.6,-21.45) 290(22.6,-21.15) 291(22.6,-20.85) 292(22.6,-20.55) 293(22.6,-20.25) 294(22.6,-19.95) 295(22.6,-19.65) 296(22.6,-19.35) 297(22.6,-19.05) 298(22.6,-18.75) 299(22.6,-18.45) 300(22.6,-18.15) 301(22.6,-17.85) 302(22.6,-17.55) 303(22.6,-17.25) 304(22.6,-16.95) 305(22.6,-16.65) 306(22.6,-16.35) 307(22.6,-16.05) 308(22.6,-15.75) 309(22.6,-15.45) 310(22.6,-15.15) 311(22.6,-14.85) 312(22.6,-14.55) 313(22.6,-14.25) 314(22.6,-13.95) 315(22.6,-13.65) 316(22.6,-13.35) 317(22.6,-13.05) 318(22.6,-12.75) 319(22.6,-12.45) 320(22.6,-12.15) 321(22.6,-11.85) 322(22.6,-11.55) 323(22.6,-11.25) 324(22.6,-10.95) 325(22.6,-10.65) 326(22.6,-10.35) 327(22.6,-10.05) 328(22.6,-9.75) 329(22.6,-9.45) 330(22.6,-9.15) 331(22.6,-8.85) 332(22.6,-8.55) 333(22.6,-8.25) 334(22.6,-7.95) 335(22.6,-7.65) 336(22.6,-7.35) 337(22.6,-7.05) 338(22.6,-6.75) 339(22.6,-6.45) 340(22.6,-6.15) 341(22.6,-5.85) 342(22.6,-5.55) 343(22.6,-5.25) 344(22.6,-4.95) 345(22.6,-4.65) 346(22.6,-4.35) 347(22.6,-4.05) 348(22.6,-3.75) 349(22.6,-3.45) 350(22.6,-3.15) 351(22.6,-2.85) 352(22.6,-2.55) 353(22.6,-2.25) 354(22.6,-1.95) 355(22.6,-1.65) 356(22.6,-1.35) 357(22.6,-1.05) 358(22.6,-0.75) 359(22.6,-0.45) 360(22.6,-0.15) 361(22.6,0.15) 362(22.6,0.45) 363(22.6,0.75) 364(22.6,1.05) 365(22.6,1.35) 366(22.6,1.65) 367(22.6,1.95) 368(22.6,2.25) 369(22.6,2.55) 370(22.6,2.85) 371(22.6,3.15) 372(22.6,3.45) 373(22.6,3.75) 374(22.6,4.05) 375(22.6,4.35) 376(22.6,4.65) 377(22.6,4.95) 378(22.6,5.25) 379(22.6,5.55) 380(22.6,5.85) 381(22.6,6.15) 382(22.6,6.45) 383(22.6,6.75) 384(22.6,7.05) 385(22.6,7.35) 386(22.6,7.65) 387(22.6,7.95) 388(22.6,8.25) 389(22.6,8.55) 390(22.6,8.85) 391(22.6,9.15) 392(22.6,9.45) 393(22.6,9.75) 394(22.6,10.05) 395(22.6,10.35) 396(22.6,10.65) 397(22.6,10.95) 398(22.6,11.25) 399(22.6,11.55) 400(22.6,11.85) 401(22.6,12.15) 402(22.6,12.45) 403(22.6,12.75) 404(22.6,13.05) 405(22.6,13.35) 406(22.6,13.65) 407(22.6,13.95) 408(22.6,14.25) 409(22.6,14.55) 410(22.6,14.85) 411(22.6,15.15) 412(22.6,15.45) 413(22.6,15.75) 414(22.6,16.05) 415(22.6,16.35) 416(22.6,16.65) 417(22.6,16.95) 418(22.6,17.25) 419(22.6,17.55) 420(22.6,17.85) 421(22.6,18.15) 422(22.6,18.45) 423(22.6,18.75) 424(22.6,19.05) 425(22.6,19.35) 426(22.6,19.65) 427(22.6,19.95) 428(22.6,20.25) 429(22.6,20.55) 430(22.6,20.85) 431(22.6,21.15) 432(22.6,21.45)
  rect 0.17x1.6 smd: 145(-21.45,-22.6) 146(-21.15,-22.6) 147(-20.85,-22.6) 148(-20.55,-22.6) 149(-20.25,-22.6) 150(-19.95,-22.6) 151(-19.65,-22.6) 152(-19.35,-22.6) 153(-19.05,-22.6) 154(-18.75,-22.6) 155(-18.45,-22.6) 156(-18.15,-22.6) 157(-17.85,-22.6) 158(-17.55,-22.6) 159(-17.25,-22.6) 160(-16.95,-22.6) 161(-16.65,-22.6) 162(-16.35,-22.6) 163(-16.05,-22.6) 164(-15.75,-22.6) 165(-15.45,-22.6) 166(-15.15,-22.6) 167(-14.85,-22.6) 168(-14.55,-22.6) 169(-14.25,-22.6) 170(-13.95,-22.6) 171(-13.65,-22.6) 172(-13.35,-22.6) 173(-13.05,-22.6) 174(-12.75,-22.6) 175(-12.45,-22.6) 176(-12.15,-22.6) 177(-11.85,-22.6) 178(-11.55,-22.6) 179(-11.25,-22.6) 180(-10.95,-22.6) 181(-10.65,-22.6) 182(-10.35,-22.6) 183(-10.05,-22.6) 184(-9.75,-22.6) 185(-9.45,-22.6) 186(-9.15,-22.6) 187(-8.85,-22.6) 188(-8.55,-22.6) 189(-8.25,-22.6) 190(-7.95,-22.6) 191(-7.65,-22.6) 192(-7.35,-22.6) 193(-7.05,-22.6) 194(-6.75,-22.6) 195(-6.45,-22.6) 196(-6.15,-22.6) 197(-5.85,-22.6) 198(-5.55,-22.6) 199(-5.25,-22.6) 200(-4.95,-22.6) 201(-4.65,-22.6) 202(-4.35,-22.6) 203(-4.05,-22.6) 204(-3.75,-22.6) 205(-3.45,-22.6) 206(-3.15,-22.6) 207(-2.85,-22.6) 208(-2.55,-22.6) 209(-2.25,-22.6) 210(-1.95,-22.6) 211(-1.65,-22.6) 212(-1.35,-22.6) 213(-1.05,-22.6) 214(-0.75,-22.6) 215(-0.45,-22.6) 216(-0.15,-22.6) 217(0.15,-22.6) 218(0.45,-22.6) 219(0.75,-22.6) 220(1.05,-22.6) 221(1.35,-22.6) 222(1.65,-22.6) 223(1.95,-22.6) 224(2.25,-22.6) 225(2.55,-22.6) 226(2.85,-22.6) 227(3.15,-22.6) 228(3.45,-22.6) 229(3.75,-22.6) 230(4.05,-22.6) 231(4.35,-22.6) 232(4.65,-22.6) 233(4.95,-22.6) 234(5.25,-22.6) 235(5.55,-22.6) 236(5.85,-22.6) 237(6.15,-22.6) 238(6.45,-22.6) 239(6.75,-22.6) 240(7.05,-22.6) 241(7.35,-22.6) 242(7.65,-22.6) 243(7.95,-22.6) 244(8.25,-22.6) 245(8.55,-22.6) 246(8.85,-22.6) 247(9.15,-22.6) 248(9.45,-22.6) 249(9.75,-22.6) 250(10.05,-22.6) 251(10.35,-22.6) 252(10.65,-22.6) 253(10.95,-22.6) 254(11.25,-22.6) 255(11.55,-22.6) 256(11.85,-22.6) 257(12.15,-22.6) 258(12.45,-22.6) 259(12.75,-22.6) 260(13.05,-22.6) 261(13.35,-22.6) 262(13.65,-22.6) 263(13.95,-22.6) 264(14.25,-22.6) 265(14.55,-22.6) 266(14.85,-22.6) 267(15.15,-22.6) 268(15.45,-22.6) 269(15.75,-22.6) 270(16.05,-22.6) 271(16.35,-22.6) 272(16.65,-22.6) 273(16.95,-22.6) 274(17.25,-22.6) 275(17.55,-22.6) 276(17.85,-22.6) 277(18.15,-22.6) 278(18.45,-22.6) 279(18.75,-22.6) 280(19.05,-22.6) 281(19.35,-22.6) 282(19.65,-22.6) 283(19.95,-22.6) 284(20.25,-22.6) 285(20.55,-22.6) 286(20.85,-22.6) 287(21.15,-22.6) 288(21.45,-22.6) 433(21.45,22.6) 434(21.15,22.6) 435(20.85,22.6) 436(20.55,22.6) 437(20.25,22.6) 438(19.95,22.6) 439(19.65,22.6) 440(19.35,22.6) 441(19.05,22.6) 442(18.75,22.6) 443(18.45,22.6) 444(18.15,22.6) 445(17.85,22.6) 446(17.55,22.6) 447(17.25,22.6) 448(16.95,22.6) 449(16.65,22.6) 450(16.35,22.6) 451(16.05,22.6) 452(15.75,22.6) 453(15.45,22.6) 454(15.15,22.6) 455(14.85,22.6) 456(14.55,22.6) 457(14.25,22.6) 458(13.95,22.6) 459(13.65,22.6) 460(13.35,22.6) 461(13.05,22.6) 462(12.75,22.6) 463(12.45,22.6) 464(12.15,22.6) 465(11.85,22.6) 466(11.55,22.6) 467(11.25,22.6) 468(10.95,22.6) 469(10.65,22.6) 470(10.35,22.6) 471(10.05,22.6) 472(9.75,22.6) 473(9.45,22.6) 474(9.15,22.6) 475(8.85,22.6) 476(8.55,22.6) 477(8.25,22.6) 478(7.95,22.6) 479(7.65,22.6) 480(7.35,22.6) 481(7.05,22.6) 482(6.75,22.6) 483(6.45,22.6) 484(6.15,22.6) 485(5.85,22.6) 486(5.55,22.6) 487(5.25,22.6) 488(4.95,22.6) 489(4.65,22.6) 490(4.35,22.6) 491(4.05,22.6) 492(3.75,22.6) 493(3.45,22.6) 494(3.15,22.6) 495(2.85,22.6) 496(2.55,22.6) 497(2.25,22.6) 498(1.95,22.6) 499(1.65,22.6) 500(1.35,22.6) 501(1.05,22.6) 502(0.75,22.6) 503(0.45,22.6) 504(0.15,22.6) 505(-0.15,22.6) 506(-0.45,22.6) 507(-0.75,22.6) 508(-1.05,22.6) 509(-1.35,22.6) 510(-1.65,22.6) 511(-1.95,22.6) 512(-2.25,22.6) 513(-2.55,22.6) 514(-2.85,22.6) 515(-3.15,22.6) 516(-3.45,22.6) 517(-3.75,22.6) 518(-4.05,22.6) 519(-4.35,22.6) 520(-4.65,22.6) 521(-4.95,22.6) 522(-5.25,22.6) 523(-5.55,22.6) 524(-5.85,22.6) 525(-6.15,22.6) 526(-6.45,22.6) 527(-6.75,22.6) 528(-7.05,22.6) 529(-7.35,22.6) 530(-7.65,22.6) 531(-7.95,22.6) 532(-8.25,22.6) 533(-8.55,22.6) 534(-8.85,22.6) 535(-9.15,22.6) 536(-9.45,22.6) 537(-9.75,22.6) 538(-10.05,22.6) 539(-10.35,22.6) 540(-10.65,22.6) 541(-10.95,22.6) 542(-11.25,22.6) 543(-11.55,22.6) 544(-11.85,22.6) 545(-12.15,22.6) 546(-12.45,22.6) 547(-12.75,22.6) 548(-13.05,22.6) 549(-13.35,22.6) 550(-13.65,22.6) 551(-13.95,22.6) 552(-14.25,22.6) 553(-14.55,22.6) 554(-14.85,22.6) 555(-15.15,22.6) 556(-15.45,22.6) 557(-15.75,22.6) 558(-16.05,22.6) 559(-16.35,22.6) 560(-16.65,22.6) 561(-16.95,22.6) 562(-17.25,22.6) 563(-17.55,22.6) 564(-17.85,22.6) 565(-18.15,22.6) 566(-18.45,22.6) 567(-18.75,22.6) 568(-19.05,22.6) 569(-19.35,22.6) 570(-19.65,22.6) 571(-19.95,22.6) 572(-20.25,22.6) 573(-20.55,22.6) 574(-20.85,22.6) 575(-21.15,22.6) 576(-21.45,22.6)
Top Overlay:
  circle w0.6: c-20.4,20.4 r0.3
  circle w0.25: c-23.96,21.45 r0.125
  lines w0.2: -21.4,-21.4 -21.4,21.4 21.4,21.4 21.4,-21.4 -21.4,-21.4